# Altium footprint library 031543110RFX.PcbLib: 1 footprints
Each footprint in its own frame and in the unit in brackets; x right, y up, seen from the top. Pads: shape width x height; smd on the part's side, far side on the other; paste and mask are expansions set on the pad; w line width, h text height; cw(c..) or ccw(c..) is an arc to the next point about the centre after c.
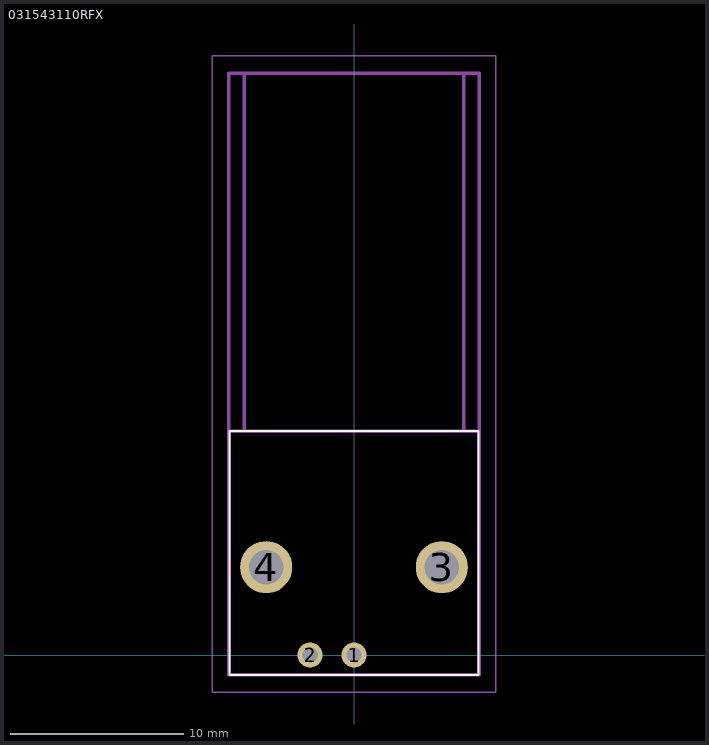
[diagram p0: the footprint, top view; thin cyan lines are the x and y axes]

## 031543110RFX [mm]
pads (4):
  round 1.446 hole 0.89: 1(0,0) 2(-2.54,0)
  round 3.015 hole 2.01: 3(5.08,5.08) 4(-5.08,5.08)
Top Overlay:
  lines w0.1: -7.2,-1.15 -7.2,12.95 7.2,12.95 7.2,-1.15 -7.2,-1.15
Top Assembly:
  lines w0.2: -6.35,12.95 -6.35,33.65 6.35,33.65 6.35,12.95 ; -7.2,-1.15 -7.2,12.95 7.2,12.95 7.2,-1.15 -7.2,-1.15
Top Courtyard:
  lines w0.2: -7.25,-1.152 7.239,-1.152 7.239,33.655 -7.25,33.655 -7.25,-1.152
Top Designator:
  text ".Designator" at -2.529,7.592 h0.76
Mechanical 20:
  lines w0.1: -8.2,-2.15 -8.2,34.65 8.2,34.65 8.2,-2.15 -8.2,-2.15
3D body "031-5431-10RFX.stp": height 15.84, standoff -4, extent -7.2,-1.15 7.2,33.65